# EAGLE library part SATA-7 (library OfficineRobotiche)
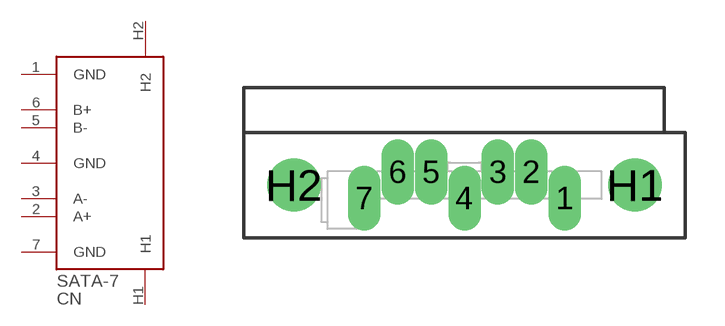
[diagram p2: symbol with the pads of SATA-5607-5102-SH; footprint SATA-5607-5102-SH]

Designator prefix CN

## SATA-7  [SATA-5607-5102-SH]
1  GND
2  A+
3  A-
4  GND
5  B-
6  B+
7  GND
H1  H1
H2  H2

## Footprint SATA-5607-5102-SH (pad centres in mm)
drill 0.737 pad 1.016 long: 1 3.81,-0.5; 2 2.54,0.5; 3 1.27,0.5; 4 0,-0.5; 5 -1.27,0.5; 6 -2.54,0.5; 7 -3.81,-0.5
drill 1.346: H1 6.49,0; H2 -6.49,0